# Altium schematic symbol library MAX3420E_Cape.SchLib: 10 symbols
Pins are listed as number, name and electrical type; pins without a type are passive.

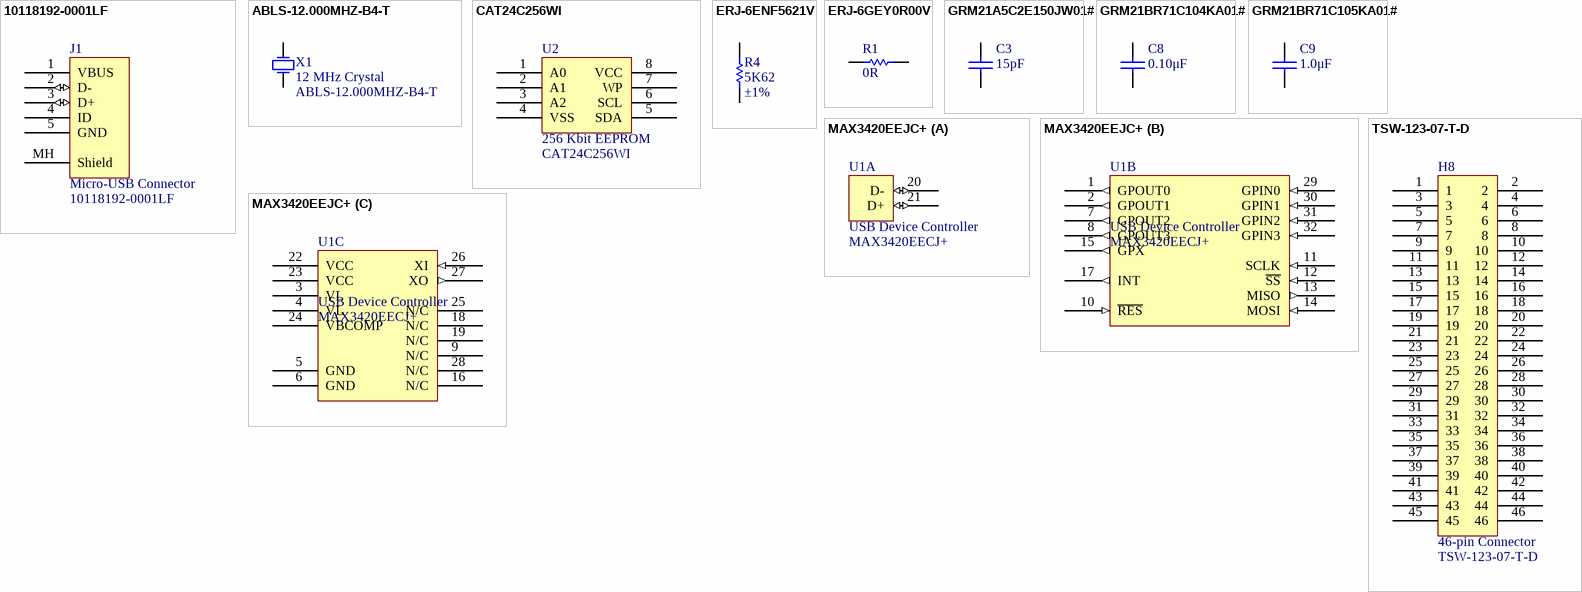
[diagram p0: symbols 10118192-0001LF to TSW-123-07-T-D]

## 10118192-0001LF
designator J1, comment Micro-USB Connector  PartNumber: 10118192-0001LF
Surface-mount USB 2.0 Micro-B Connector with Flange; Manufacturer: Amphenol
footprint 10118192 (Surface Mount USB 2.0 Micro-B Connector with Flange)
pins: 1 VBUS (power), 2 D- (io), 3 D+ (io), 4 ID, 5 GND (power), MH Shield

## ABLS-12.000MHZ-B4-T
designator X1, comment 12 MHz Crystal  PartNumber: ABLS-12.000MHZ-B4-T
12 MHz 20 ppm Crystal; Manufacturer: Abracon
footprint ABLS (Abracon ABLS Crystal Package)
pins: 1 X1, 2 X2

## CAT24C256WI
designator U2, comment 256 Kbit EEPROM  PartNumber: CAT24C256WI
256 Kbit EEPROM Memory - I2C; Manufacturer: ON-Semiconductor
footprint SOIC-8 (SOIC 8, 3.9mmx3.9mm)
pins: 1 A0, 2 A1, 3 A2, 4 VSS, 5 SDA, 6 SCL, 7 WP, 8 VCC

## ERJ-6ENF5621V
designator R4, comment 5K62  Tolerance: ±1%
RES 5K62 0805 ±1%; PartNumber: ERJ-6ENF5621V; Manufacturer: Panasonic; Case (EIA): 0805; Case (Metric): 2012; TCR: ±200ppm; Power Rating: 0.125 W; Value: 5K62; Supplier 1: Mouser; Supplier Part Number 1: 667-ERJ-6ENF5621V; Supplier 2: Digi-Key; Supplier Part Number 2: P5.62KCCT-ND
footprint 0805_75 (IPC 01005 Medium Density Footprint)
pins: 1, 2

## ERJ-6GEY0R00V
designator R1, comment 0R
RES 0R 0805 2 A; PartNumber: ERJ-6GEY0R00V; Manufacturer: Panasonic; Case (EIA): 0805; Case (Metric): 2012; Current Rating: 2 A; Value: 0R; Supplier 1: Mouser; Supplier Part Number 1: 667-ERJ-6GEY0R00V; Supplier 2: Digi-Key; Supplier Part Number 2: P0.0ACT-ND
footprint 0805_75 (IPC 01005 Medium Density Footprint)
pins: 1, 2

## GRM21A5C2E150JW01#
designator C3, comment 15pF
CAP 15pF     0805 250V  ±5%     C0G; Manufacturer: Murata; PartNumber: GRM21A5C2E150JW01#; Case-Metric: 2012; Case-EIA: 0805; Supplier 1: Mouser; Supplier Part Number 1: 81-GRM21A5C2E150JW1D; Supplier 2: Digi-Key; Supplier Part Number 2: 490-5532-1-ND; Value: 15pF; Tolerance: ±5%; Rated Voltage: 250V; Dielectric: C0G
footprint 0805_100 (IPC 0805 Medium Density Footprint)
pins: 1, 2

## GRM21BR71C104KA01#
designator C8, comment 0.10μF
CAP 0.10μF  0805 16V   ±10%    X7R; Manufacturer: Murata; PartNumber: GRM21BR71C104KA01#; Case-Metric: 2012; Case-EIA: 0805; Supplier 1: Mouser; Supplier Part Number 1: 81-GRM21BR71C104KA1L; Supplier 2: Digi-Key; Value: 0.10μF; Tolerance: ±10%; Rated Voltage: 16V; Dielectric: X7R
footprint 0805_100 (IPC 0805 Medium Density Footprint)
pins: 1, 2

## GRM21BR71C105KA01#
designator C9, comment 1.0μF
CAP 1.0μF   0805 16V   ±10%    X7R; Manufacturer: Murata; PartNumber: GRM21BR71C105KA01#; Case-Metric: 2012; Case-EIA: 0805; Supplier 1: Mouser; Supplier Part Number 1: 81-GRM40X105K16K; Supplier 2: Digi-Key; Supplier Part Number 2: 490-11597-1-ND; Value: 1.0μF; Tolerance: ±10%; Rated Voltage: 16V; Dielectric: X7R
footprint 0805_100 (IPC 0805 Medium Density Footprint)
pins: 1, 2

## MAX3420EEJC+
designator U1, comment USB Device Controller  PartNumber: MAX3420EECJ+
USB Peripheral Controller with SPI Interface; Manufacturer: Maxim IC
footprint C32+1 (32-pin LQFP package)
part A pins: 20 D- (io), 21 D+ (io)
part B pins: 1 GPOUT0 (out), 2 GPOUT1 (out), 7 GPOUT2 (out), 8 GPOUT3 (out), 10 ~{RES} (in), 11 SCLK (in), 12 ~{SS} (in), 13 MISO (out), 14 MOSI (in), 15 GPX (out), 17 INT (out), 29 GPIN0 (in), 30 GPIN1 (in), 31 GPIN2 (in), 32 GPIN3 (in)
part C pins: 3 VL (power), 4 VL (power), 5 GND (power), 6 GND (power), 9 N/C, 16 N/C, 18 N/C, 19 N/C, 22 VCC (power), 23 VCC (power), 24 VBCOMP (power), 25 N/C, 26 XI (in), 27 XO (out), 28 N/C

## TSW-123-07-T-D
designator H8, comment 46-pin Connector  PartNumber: TSW-123-07-T-D
46-pin Dual Row 100-mil Headers; Manufacturer: Samtec
footprint TSW-123-07-X-S (46-pin 100-mil header)
pins: 1, 2, 3, 4, 5, 6, 7, 8, 9, 10, 11, 12, 13, 14, 15, 16, 17, 18, 19, 20, 21, 22, 23, 24, 25, 26, 27, 28, 29, 30, 31, 32, 33, 34, 35, 36, 37, 38, 39, 40, 41, 42, 43, 44, 45, 46